# Altium footprint library DAC0832.PcbLib: 1 footprints
Each footprint in its own frame and in the unit in brackets; x right, y up, seen from the top. Pads: shape width x height; smd on the part's side, far side on the other; paste and mask are expansions set on the pad; w line width, h text height; cw(c..) or ccw(c..) is an arc to the next point about the centre after c.
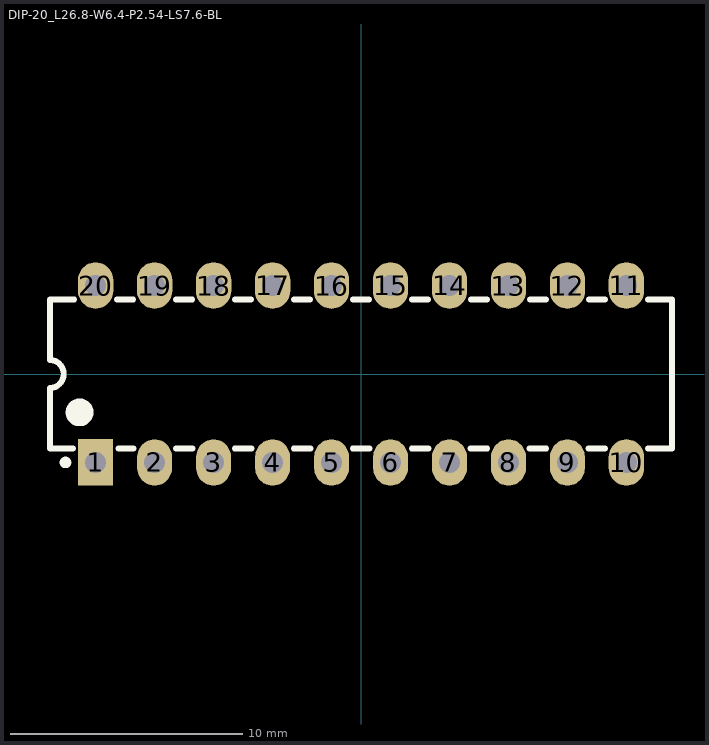
[diagram p0: the footprint, top view; thin cyan lines are the x and y axes]

## DIP-20_L26.8-W6.4-P2.54-LS7.6-BL [mm]
pads (20):
  rect 1.5x2 hole 0.9: 1(-11.43,-3.81)
  oval 1.5x1.999 hole 0.9: 2(-8.89,-3.81) 3(-6.35,-3.81) 4(-3.81,-3.81) 5(-1.27,-3.81) 6(1.27,-3.81) 7(3.81,-3.81) 8(6.35,-3.81) 9(8.89,-3.81)
  oval 1.524x2 hole 0.9: 10(11.43,-3.81) 11(11.43,3.81) 12(8.89,3.81) 13(6.35,3.81) 14(3.81,3.81) 15(1.27,3.81) 16(-1.27,3.81) 17(-3.81,3.81) 18(-6.35,3.81) 19(-8.89,3.81) 20(-11.43,3.81)
Top Overlay:
  lines w0.25: -12.855,-3.81 ccw(c-12.73,-3.809) -12.855,-3.807
  lines w0.254: -13.4,-0.6 -13.4,-3.2 -12.411,-3.2 ; -13.4,0.6 -13.4,3.2 -12.351,3.2 ; -13.359,0.6 cw(c-13.405,0) -13.358,-0.6 ; -10.509,3.2 -9.811,3.2 ; -10.449,-3.2 -9.803,-3.2 ; -7.977,-3.2 -7.263,-3.2 ; -7.969,3.2 -7.271,3.2 ; -5.437,-3.2 -4.723,-3.2 ; -5.429,3.2 -4.731,3.2 ; -2.897,-3.2 -2.183,-3.2 ; -2.889,3.2 -2.191,3.2 ; -0.357,-3.2 0.357,-3.2 ; -0.349,3.2 0.349,3.2 ; 2.183,-3.2 2.897,-3.2 ; 2.191,3.2 2.889,3.2 ; 4.723,-3.2 5.437,-3.2 ; 4.731,3.2 5.429,3.2 ; 7.263,-3.2 7.977,-3.2 ; 7.271,3.2 7.969,3.2 ; 9.803,-3.2 10.509,-3.2 ; 9.811,3.2 10.509,3.2 ; 12.351,-3.2 13.4,-3.2 13.4,3.2 12.351,3.2
  lines w0.6: -12.421,-1.651 ccw(c-12.121,-1.648) -12.421,-1.646